# Altium footprint library USON-6_1x1.45mm_P0.5mm.PcbLib: 1 footprints
Each footprint in its own frame and in the unit in brackets; x right, y up, seen from the top. Pads: shape width x height; smd on the part's side, far side on the other; paste and mask are expansions set on the pad; w line width, h text height; cw(c..) or ccw(c..) is an arc to the next point about the centre after c.
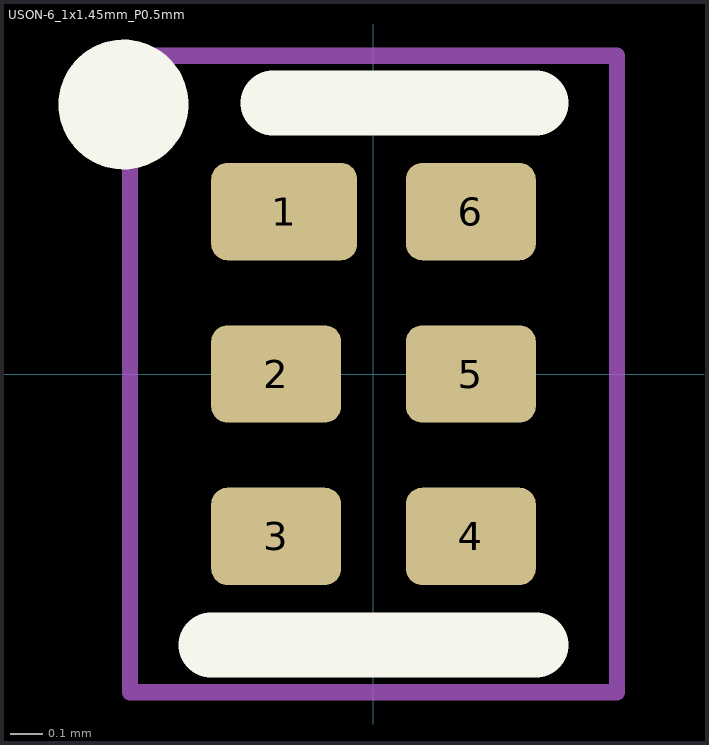
[diagram p0: the footprint, top view; thin cyan lines are the x and y axes]

## USON-6_1x1.45mm_P0.5mm [mm]
pads (6):
  rrect33% 0.45x0.3 smd: 1(-0.275,0.5)
  rrect33% 0.4x0.3 smd: 2(-0.3,0) 3(-0.3,-0.5) 4(0.3,-0.5) 5(0.3,0) 6(0.3,0.5)
F.SilkS:
  circle w0.2: c-0.77,0.83 r0.1
  lines w0.2: -0.5,-0.835 0.5,-0.835 ; -0.31,0.835 0.5,0.835
F.CrtYd:
  lines w0.05: -0.75,-0.98 -0.75,0.98 0.75,0.98 0.75,-0.98 -0.75,-0.98
3D body "USON-6_1x1.45mm_P0.5mm.step": height 0.63, standoff 0, extent -0.5,-0.715 0.5,0.715